# EAGLE library part CON10 (library lpatiny copy)
CONNECTOR
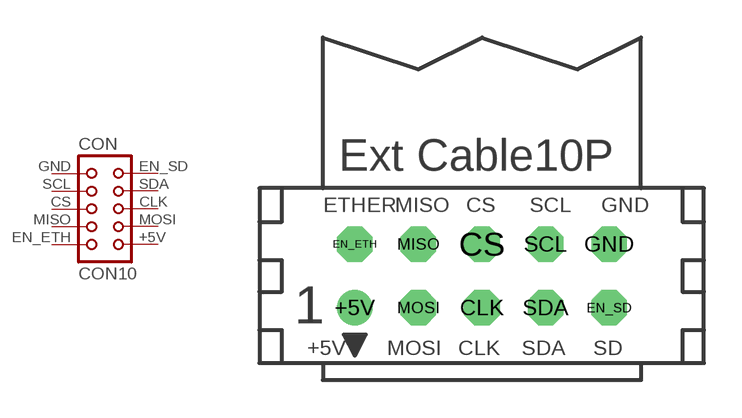
[diagram p7: symbol with the pads of CON10EXT; footprint CON10EXT]

Designator prefix CON

## CON10EXT (OC_FARNELL: unknown; OC_NEWARK: unknown)  [CON10EXT]
+5V  1  pas
CLK  5  pas
CS  6  pas
EN_ETH  2  pas
EN_SD  9  pas
GND  10  pas
MISO  4  pas
MOSI  3  pas
SCL  8  pas
SDA  7  pas

## Footprint CON10EXT (pad centres in mm)
CONNECTOR
drill 0.914: +5V -5.08,-1.27
drill 0.914 octagon: CLK 0,-1.27; CS 0,1.27; EN_ETH -5.08,1.27; EN_SD 5.08,-1.27; GND 5.08,1.27; MISO -2.54,1.27; MOSI -2.54,-1.27; SCL 2.54,1.27; SDA 2.54,-1.27